# Altium footprint library QFN.PcbLib: 7 footprints
Each footprint in its own frame and in the unit in brackets; x right, y up, seen from the top. Pads: shape width x height; smd on the part's side, far side on the other; paste and mask are expansions set on the pad; w line width, h text height; cw(c..) or ccw(c..) is an arc to the next point about the centre after c.
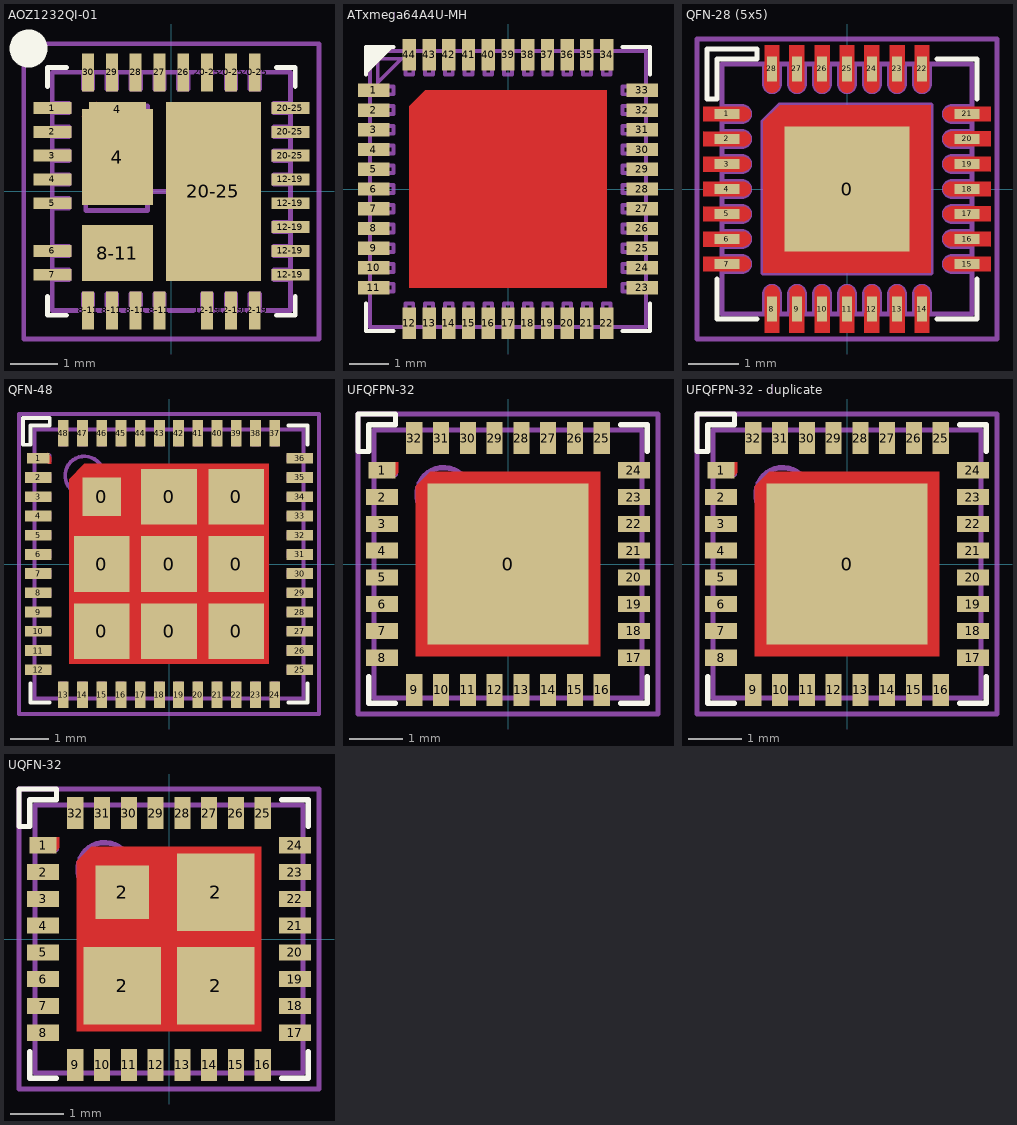
[diagram p0: the footprints below, top view; thin cyan lines are the x and y axes]

## AOZ1232QI-01 [mm] "QFN-30 5x5x0.9mm"
height 0.9
pads (34):
  rect 0.8x0.25 smd: 1(-2.5,1.75) 2(-2.5,1.25) 3(-2.5,0.75) 4(-2.5,0.25) 5(-2.5,-0.25) 6(-2.5,-1.25) 7(-2.5,-1.75) 12-19(2.5,-1.75) 12-19(2.5,-1.25) 12-19(2.5,-0.75) 12-19(2.5,-0.25) 12-19(2.5,0.25) 20-25(2.5,0.75) 20-25(2.5,1.25) 20-25(2.5,1.75)
  rect 1.494x2.02 smd: 4(-1.133,0.72)
  rect 1.194x0.3 smd: 4(-1.133,1.73)
  rect 0.25x0.8 smd: 8-11(-1.75,-2.5) 8-11(-1.25,-2.5) 8-11(-0.75,-2.5) 8-11(-0.25,-2.5) 12-19(0.75,-2.5) 12-19(1.25,-2.5) 12-19(1.75,-2.5) 20-25(0.75,2.5) 20-25(1.25,2.5) 20-25(1.75,2.5) 26(0.25,2.5) 27(-0.25,2.5) 28(-0.75,2.5) 29(-1.25,2.5) 30(-1.75,2.5)
  rect 1.494x1.17 smd: 8-11(-1.133,-1.295)
  rect 1.996x3.76 smd: 20-25(0.882,0)
Top Layer:
  region: -1.88,1.58 -1.58,1.88 -1.58,1.58
Top Overlay:
  circle w0.4: c-3,3 r0.2
  lines w0.1: -2.6,-2.2 -2.6,-2.6 -2.2,-2.6 ; -2.6,2.2 -2.6,2.6 -2.2,2.6 ; 2.2,-2.6 2.6,-2.6 2.6,-2.2 ; 2.2,2.6 2.6,2.6 2.6,2.2
Top Paste:
  pour cut-out: -0.12,-0.441 -0.12,-0.711 1.88,-0.711 1.88,-0.441
  pour cut-out: -0.12,0.849 -0.12,0.579 1.88,0.579 1.88,0.849
  pour cut-out: -1.88,0.84 -1.88,0.57 -0.385,0.57 -0.385,0.84
  pour cut-out: -1.06,-1.88 -1.21,-1.88 -1.21,-0.71 -1.06,-0.71
  pour cut-out: 1,1.88 0.85,1.88 0.85,-1.88 1,-1.88
  pour cut-out: -1.06,1.88 -1.21,1.88 -1.21,-0.437 -1.06,-0.437
Top Package:
  lines w0.1: -2.5,-1.85 -2.15,-1.85 -2.15,-1.65 -2.5,-1.65 ; -2.5,-1.35 -2.15,-1.35 -2.15,-1.15 -2.5,-1.15 ; -2.5,-0.35 -2.15,-0.35 -2.15,-0.15 -2.5,-0.15 ; -2.5,0.15 -2.15,0.15 -2.15,0.35 -2.5,0.35 ; -2.5,0.65 -2.15,0.65 -2.15,0.85 -2.5,0.85 ; -2.5,1.15 -2.15,1.15 -2.15,1.35 -2.5,1.35 ; -2.5,1.65 -2.15,1.65 -2.15,1.85 -2.5,1.85 ; -1.85,-2.5 -1.85,-2.15 -1.65,-2.15 -1.65,-2.5 ; -1.85,2.5 -1.85,2.15 -1.65,2.15 -1.65,2.5 ; -1.35,-2.5 -1.35,-2.15 -1.15,-2.15 -1.15,-2.5 ; -1.35,2.5 -1.35,2.15 -1.15,2.15 -1.15,2.5 ; -0.85,-2.5 -0.85,-2.15 -0.65,-2.15 -0.65,-2.5 ; -0.85,2.5 -0.85,2.15 -0.65,2.15 -0.65,2.5 ; -0.35,-2.5 -0.35,-2.15 -0.15,-2.15 -0.15,-2.5 ; -0.35,2.5 -0.35,2.15 -0.15,2.15 -0.15,2.5 ; 0.15,2.5 0.15,2.15 0.35,2.15 0.35,2.5 ; 0.65,-2.5 0.65,-2.15 0.85,-2.15 0.85,-2.5 ; 1.15,-2.5 1.15,-2.15 1.35,-2.15 1.35,-2.5 ; 1.15,2.5 1.15,2.15 1.35,2.15 1.35,2.5 ; 1.65,-2.5 1.65,-2.15 1.85,-2.15 1.85,-2.5 ; 1.65,2.5 1.65,2.15 1.85,2.15 1.85,2.5 ; 2.5,-1.85 2.15,-1.85 2.15,-1.65 2.5,-1.65 ; 2.5,-1.35 2.15,-1.35 2.15,-1.15 2.5,-1.15 ; 2.5,-0.85 2.15,-0.85 2.15,-0.65 2.5,-0.65 ; 2.5,0.15 2.15,0.15 2.15,0.35 2.5,0.35 ; 2.5,0.65 2.15,0.65 2.15,0.85 2.5,0.85 ; 2.5,1.15 2.15,1.15 2.15,1.35 2.5,1.35 ; 2.5,1.65 2.15,1.65 2.15,1.85 2.5,1.85 ; -2.5,-2.5 2.5,-2.5 2.5,2.5 -2.5,2.5 -2.5,-2.5 ; -1.8,-1.8 -1.8,-0.8 -0.5,-0.8 -0.5,-1.8 -1.8,-1.8 ; -1.8,-0.4 -1.8,1.5 -1.5,1.8 -0.5,1.8 -0.5,-0.4 -1.8,-0.4 ; 0,-1.8 0,1.8 1.8,1.8 1.8,-1.8 0,-1.8
Top Border:
  lines w0.1: -0.5,0 0,0 ; 0,-0.5 0,0 ; 0,0.5 0,0 ; 0.5,0 0,0 ; -3.1,-3.1 -3.1,3.1 3.1,3.1 3.1,-3.1 -3.1,-3.1
3D body "UFQFPN-32.step": height 0.55, standoff 0, extent -2.5,-2.5 2.5,2.5

## ATxmega64A4U-MH [mm] "PW"
height 1
pads (44):
  rect 0.8x0.34 smd: 1(-3.4,2.5) 2(-3.4,2) 3(-3.4,1.5) 4(-3.4,1) 5(-3.4,0.5) 6(-3.4,0) 7(-3.4,-0.5) 8(-3.4,-1) 9(-3.4,-1.5) 10(-3.4,-2) 11(-3.4,-2.5) 23(3.4,-2.5) 24(3.4,-2) 25(3.4,-1.5) 26(3.4,-1) 27(3.4,-0.5) 28(3.4,0) 29(3.4,0.5) 30(3.4,1) 31(3.4,1.5) 32(3.4,2) 33(3.4,2.5)
  rect 0.34x0.8 smd: 12(-2.5,-3.4) 13(-2,-3.4) 14(-1.5,-3.4) 15(-1,-3.4) 16(-0.5,-3.4) 17(0,-3.4) 18(0.5,-3.4) 19(1,-3.4) 20(1.5,-3.4) 21(2,-3.4) 22(2.5,-3.4) 34(2.5,3.4) 35(2,3.4) 36(1.5,3.4) 37(1,3.4) 38(0.5,3.4) 39(0,3.4) 40(-0.5,3.4) 41(-1,3.4) 42(-1.5,3.4) 43(-2,3.4) 44(-2.5,3.4)
Top Layer:
  region: -2.5,2.1 -2.1,2.5 2.5,2.5 2.5,-2.5 -2.5,-2.5
Top Overlay:
  region: -3.55,2.95 -3.55,3.55 -2.95,3.55
  lines w0.1: -3.6,-2.9 -3.6,-3.6 -2.9,-3.6 ; -3.6,2.9 -3.6,3.6 -2.9,3.6 ; 2.9,-3.6 3.6,-3.6 3.6,-2.9 ; 2.9,3.6 3.6,3.6 3.6,2.9
Top Package:
  lines w0.1: -3.5,-2.6 -2.9,-2.6 -2.9,-2.4 -3.5,-2.4 ; -3.5,-2.1 -2.9,-2.1 -2.9,-1.9 -3.5,-1.9 ; -3.5,-1.6 -2.9,-1.6 -2.9,-1.4 -3.5,-1.4 ; -3.5,-1.1 -2.9,-1.1 -2.9,-0.9 -3.5,-0.9 ; -3.5,-0.6 -2.9,-0.6 -2.9,-0.4 -3.5,-0.4 ; -3.5,-0.1 -2.9,-0.1 -2.9,0.1 -3.5,0.1 ; -3.5,0.4 -2.9,0.4 -2.9,0.6 -3.5,0.6 ; -3.5,0.9 -2.9,0.9 -2.9,1.1 -3.5,1.1 ; -3.5,1.4 -2.9,1.4 -2.9,1.6 -3.5,1.6 ; -3.5,1.9 -2.9,1.9 -2.9,2.1 -3.5,2.1 ; -3.5,2.4 -2.9,2.4 -2.9,2.6 -3.5,2.6 ; -2.6,-3.5 -2.6,-2.9 -2.4,-2.9 -2.4,-3.5 ; -2.6,3.5 -2.6,2.9 -2.4,2.9 -2.4,3.5 ; -2.1,-3.5 -2.1,-2.9 -1.9,-2.9 -1.9,-3.5 ; -2.1,3.5 -2.1,2.9 -1.9,2.9 -1.9,3.5 ; -1.6,-3.5 -1.6,-2.9 -1.4,-2.9 -1.4,-3.5 ; -1.6,3.5 -1.6,2.9 -1.4,2.9 -1.4,3.5 ; -1.1,-3.5 -1.1,-2.9 -0.9,-2.9 -0.9,-3.5 ; -1.1,3.5 -1.1,2.9 -0.9,2.9 -0.9,3.5 ; -0.6,-3.5 -0.6,-2.9 -0.4,-2.9 -0.4,-3.5 ; -0.6,3.5 -0.6,2.9 -0.4,2.9 -0.4,3.5 ; -0.1,-3.5 -0.1,-2.9 0.1,-2.9 0.1,-3.5 ; -0.1,3.5 -0.1,2.9 0.1,2.9 0.1,3.5 ; 0.4,-3.5 0.4,-2.9 0.6,-2.9 0.6,-3.5 ; 0.4,3.5 0.4,2.9 0.6,2.9 0.6,3.5 ; 0.9,-3.5 0.9,-2.9 1.1,-2.9 1.1,-3.5 ; 0.9,3.5 0.9,2.9 1.1,2.9 1.1,3.5 ; 1.4,-3.5 1.4,-2.9 1.6,-2.9 1.6,-3.5 ; 1.4,3.5 1.4,2.9 1.6,2.9 1.6,3.5 ; 1.9,-3.5 1.9,-2.9 2.1,-2.9 2.1,-3.5 ; 1.9,3.5 1.9,2.9 2.1,2.9 2.1,3.5 ; 2.4,-3.5 2.4,-2.9 2.6,-2.9 2.6,-3.5 ; 2.4,3.5 2.4,2.9 2.6,2.9 2.6,3.5 ; 3.5,-2.6 2.9,-2.6 2.9,-2.4 3.5,-2.4 ; 3.5,-2.1 2.9,-2.1 2.9,-1.9 3.5,-1.9 ; 3.5,-1.6 2.9,-1.6 2.9,-1.4 3.5,-1.4 ; 3.5,-1.1 2.9,-1.1 2.9,-0.9 3.5,-0.9 ; 3.5,-0.6 2.9,-0.6 2.9,-0.4 3.5,-0.4 ; 3.5,-0.1 2.9,-0.1 2.9,0.1 3.5,0.1 ; 3.5,0.4 2.9,0.4 2.9,0.6 3.5,0.6 ; 3.5,0.9 2.9,0.9 2.9,1.1 3.5,1.1 ; 3.5,1.4 2.9,1.4 2.9,1.6 3.5,1.6 ; 3.5,1.9 2.9,1.9 2.9,2.1 3.5,2.1 ; 3.5,2.4 2.9,2.4 2.9,2.6 3.5,2.6 ; -3.5,-3.5 3.5,-3.5 3.5,3.5 -3.5,3.5 -3.5,-3.5 ; -3.3,2.7 -2.7,3.3 -3.3,3.3 -3.3,2.7
Top Border:
  lines w0.1: -0.65,0 0,0 ; 0,-0.65 0,0 ; 0,0.8 0,0 ; 0.65,0 0,0 ; -3.5,-3.5 3.5,-3.5 3.5,3.5 -3.5,3.5 -3.5,-3.5
3D body "User Library-VQFN(44).step": height 1, standoff 0.05, extent -3.55,-3.55 3.55,3.55

## QFN-28 (5x5) [mm]
height 0.8
pads (29):
  rect 2.5x2.5 smd paste-2.5: 0(0,0)
  rect 0.5x0.2 smd paste-0.2: 1(-2.4,1.5) 2(-2.4,1) 3(-2.4,0.5) 4(-2.4,0) 5(-2.4,-0.5) 6(-2.4,-1) 7(-2.4,-1.5) 15(2.4,-1.5) 16(2.4,-1) 17(2.4,-0.5) 18(2.4,0) 19(2.4,0.5) 20(2.4,1) 21(2.4,1.5)
  rect 0.2x0.5 smd paste-0.2: 8(-1.5,-2.4) 9(-1,-2.4) 10(-0.5,-2.4) 11(0,-2.4) 12(0.5,-2.4) 13(1,-2.4) 14(1.5,-2.4) 22(1.5,2.4) 23(1,2.4) 24(0.5,2.4) 25(0,2.4) 26(-0.5,2.4) 27(-1,2.4) 28(-1.5,2.4)
Top Layer:
  region: -2.875,0.15 -2.075,0.15 -2.045,0.15 -1.99,0.127 -1.948,0.085 -1.925,0.03 -1.925,0 -1.925,-0.03 -1.948,-0.085 -1.99,-0.127 -2.045,-0.15 -2.075,-0.15 -2.875,-0.15
  region: -1.35,1.675 1.675,1.675 1.675,-1.675 -1.675,-1.675 -1.675,1.35
  region: -2.875,0.65 -2.075,0.65 -2.045,0.65 -1.99,0.627 -1.948,0.585 -1.925,0.53 -1.925,0.5 -1.925,0.47 -1.948,0.415 -1.99,0.373 -2.045,0.35 -2.075,0.35 -2.875,0.35
  region: -2.875,1.15 -2.075,1.15 -2.045,1.15 -1.99,1.127 -1.948,1.085 -1.925,1.03 -1.925,1 -1.925,0.97 -1.948,0.915 -1.99,0.873 -2.045,0.85 -2.075,0.85 -2.875,0.85
  region: -2.875,1.65 -2.075,1.65 -2.045,1.65 -1.99,1.627 -1.948,1.585 -1.925,1.53 -1.925,1.5 -1.925,1.47 -1.948,1.415 -1.99,1.373 -2.045,1.35 -2.075,1.35 -2.875,1.35
  region: -2.875,-0.35 -2.075,-0.35 -2.045,-0.35 -1.99,-0.373 -1.948,-0.415 -1.925,-0.47 -1.925,-0.5 -1.925,-0.53 -1.948,-0.585 -1.99,-0.627 -2.045,-0.65 -2.075,-0.65 -2.875,-0.65
  region: -2.875,-0.85 -2.075,-0.85 -2.045,-0.85 -1.99,-0.873 -1.948,-0.915 -1.925,-0.97 -1.925,-1 -1.925,-1.03 -1.948,-1.085 -1.99,-1.127 -2.045,-1.15 -2.075,-1.15 -2.875,-1.15
  region: -2.875,-1.35 -2.075,-1.35 -2.045,-1.35 -1.99,-1.373 -1.948,-1.415 -1.925,-1.47 -1.925,-1.5 -1.925,-1.53 -1.948,-1.585 -1.99,-1.627 -2.045,-1.65 -2.075,-1.65 -2.875,-1.65
  region: 1.35,-2.875 1.35,-2.075 1.35,-2.045 1.373,-1.99 1.415,-1.948 1.47,-1.925 1.5,-1.925 1.53,-1.925 1.585,-1.948 1.627,-1.99 1.65,-2.045 1.65,-2.075 1.65,-2.875
  region: 0.85,-2.875 0.85,-2.075 0.85,-2.045 0.873,-1.99 0.915,-1.948 0.97,-1.925 1,-1.925 1.03,-1.925 1.085,-1.948 1.127,-1.99 1.15,-2.045 1.15,-2.075 1.15,-2.875
  region: 0.35,-2.875 0.35,-2.075 0.35,-2.045 0.373,-1.99 0.415,-1.948 0.47,-1.925 0.5,-1.925 0.53,-1.925 0.585,-1.948 0.627,-1.99 0.65,-2.045 0.65,-2.075 0.65,-2.875
  region: -1.65,-2.875 -1.65,-2.075 -1.65,-2.045 -1.627,-1.99 -1.585,-1.948 -1.53,-1.925 -1.5,-1.925 -1.47,-1.925 -1.415,-1.948 -1.373,-1.99 -1.35,-2.045 -1.35,-2.075 -1.35,-2.875
  region: -1.15,-2.875 -1.15,-2.075 -1.15,-2.045 -1.127,-1.99 -1.085,-1.948 -1.03,-1.925 -1,-1.925 -0.97,-1.925 -0.915,-1.948 -0.873,-1.99 -0.85,-2.045 -0.85,-2.075 -0.85,-2.875
  region: -0.65,-2.875 -0.65,-2.075 -0.65,-2.045 -0.627,-1.99 -0.585,-1.948 -0.53,-1.925 -0.5,-1.925 -0.47,-1.925 -0.415,-1.948 -0.373,-1.99 -0.35,-2.045 -0.35,-2.075 -0.35,-2.875
  region: -0.15,-2.875 -0.15,-2.075 -0.15,-2.045 -0.127,-1.99 -0.085,-1.948 -0.03,-1.925 0,-1.925 0.03,-1.925 0.085,-1.948 0.127,-1.99 0.15,-2.045 0.15,-2.075 0.15,-2.875
  region: 2.875,1.35 2.075,1.35 2.045,1.35 1.99,1.373 1.948,1.415 1.925,1.47 1.925,1.5 1.925,1.53 1.948,1.585 1.99,1.627 2.045,1.65 2.075,1.65 2.875,1.65
  region: 2.875,0.85 2.075,0.85 2.045,0.85 1.99,0.873 1.948,0.915 1.925,0.97 1.925,1 1.925,1.03 1.948,1.085 1.99,1.127 2.045,1.15 2.075,1.15 2.875,1.15
  region: 2.875,0.35 2.075,0.35 2.045,0.35 1.99,0.373 1.948,0.415 1.925,0.47 1.925,0.5 1.925,0.53 1.948,0.585 1.99,0.627 2.045,0.65 2.075,0.65 2.875,0.65
  region: 2.875,-1.65 2.075,-1.65 2.045,-1.65 1.99,-1.627 1.948,-1.585 1.925,-1.53 1.925,-1.5 1.925,-1.47 1.948,-1.415 1.99,-1.373 2.045,-1.35 2.075,-1.35 2.875,-1.35
  region: 2.875,-1.15 2.075,-1.15 2.045,-1.15 1.99,-1.127 1.948,-1.085 1.925,-1.03 1.925,-1 1.925,-0.97 1.948,-0.915 1.99,-0.873 2.045,-0.85 2.075,-0.85 2.875,-0.85
  region: 2.875,-0.65 2.075,-0.65 2.045,-0.65 1.99,-0.627 1.948,-0.585 1.925,-0.53 1.925,-0.5 1.925,-0.47 1.948,-0.415 1.99,-0.373 2.045,-0.35 2.075,-0.35 2.875,-0.35
  region: 2.875,-0.15 2.075,-0.15 2.045,-0.15 1.99,-0.127 1.948,-0.085 1.925,-0.03 1.925,0 1.925,0.03 1.948,0.085 1.99,0.127 2.045,0.15 2.075,0.15 2.875,0.15
  region: -1.35,2.875 -1.35,2.075 -1.35,2.045 -1.373,1.99 -1.415,1.948 -1.47,1.925 -1.5,1.925 -1.53,1.925 -1.585,1.948 -1.627,1.99 -1.65,2.045 -1.65,2.075 -1.65,2.875
  region: -0.85,2.875 -0.85,2.075 -0.85,2.045 -0.873,1.99 -0.915,1.948 -0.97,1.925 -1,1.925 -1.03,1.925 -1.085,1.948 -1.127,1.99 -1.15,2.045 -1.15,2.075 -1.15,2.875
  region: -0.35,2.875 -0.35,2.075 -0.35,2.045 -0.373,1.99 -0.415,1.948 -0.47,1.925 -0.5,1.925 -0.53,1.925 -0.585,1.948 -0.627,1.99 -0.65,2.045 -0.65,2.075 -0.65,2.875
  region: 1.65,2.875 1.65,2.075 1.65,2.045 1.627,1.99 1.585,1.948 1.53,1.925 1.5,1.925 1.47,1.925 1.415,1.948 1.373,1.99 1.35,2.045 1.35,2.075 1.35,2.875
  region: 1.15,2.875 1.15,2.075 1.15,2.045 1.127,1.99 1.085,1.948 1.03,1.925 1,1.925 0.97,1.925 0.915,1.948 0.873,1.99 0.85,2.045 0.85,2.075 0.85,2.875
  region: 0.65,2.875 0.65,2.075 0.65,2.045 0.627,1.99 0.585,1.948 0.53,1.925 0.5,1.925 0.47,1.925 0.415,1.948 0.373,1.99 0.35,2.045 0.35,2.075 0.35,2.875
  region: 0.15,2.875 0.15,2.075 0.15,2.045 0.127,1.99 0.085,1.948 0.03,1.925 0,1.925 -0.03,1.925 -0.085,1.948 -0.127,1.99 -0.15,2.045 -0.15,2.075 -0.15,2.875
Top Overlay:
  lines w0.1: -2.6,-1.8 -2.6,-2.6 -1.8,-2.6 ; 1.8,-2.6 2.6,-2.6 2.6,-1.8 ; 1.8,2.6 2.6,2.6 2.6,1.8 ; -2.8,1.8 -2.8,2.8 -1.8,2.8 -1.8,2.6 -2.6,2.6 -2.6,1.8 -2.8,1.8
Top Package:
  lines w0.1: -2.5,-1.65 -2.1,-1.65 ccw(c-2.1,-1.5) -2.1,-1.35 -2.5,-1.35 ; -2.5,-1.15 -2.1,-1.15 ccw(c-2.1,-1) -2.1,-0.85 -2.5,-0.85 ; -2.5,-0.65 -2.1,-0.65 ccw(c-2.1,-0.5) -2.1,-0.35 -2.5,-0.35 ; -2.5,-0.15 -2.1,-0.15 ccw(c-2.1,0) -2.1,0.15 -2.5,0.15 ; -2.5,0.35 -2.1,0.35 ccw(c-2.1,0.5) -2.1,0.65 -2.5,0.65 ; -2.5,0.85 -2.1,0.85 ccw(c-2.1,1) -2.1,1.15 -2.5,1.15 ; -2.5,1.35 -2.1,1.35 ccw(c-2.1,1.5) -2.1,1.65 -2.5,1.65 ; -1.65,-2.5 -1.65,-2.1 cw(c-1.5,-2.1) -1.35,-2.1 -1.35,-2.5 ; -1.65,2.5 -1.65,2.1 ccw(c-1.5,2.1) -1.35,2.1 -1.35,2.5 ; -1.15,-2.5 -1.15,-2.1 cw(c-1,-2.1) -0.85,-2.1 -0.85,-2.5 ; -1.15,2.5 -1.15,2.1 ccw(c-1,2.1) -0.85,2.1 -0.85,2.5 ; -0.65,-2.5 -0.65,-2.1 cw(c-0.5,-2.1) -0.35,-2.1 -0.35,-2.5 ; -0.65,2.5 -0.65,2.1 ccw(c-0.5,2.1) -0.35,2.1 -0.35,2.5 ; -0.15,-2.5 -0.15,-2.1 cw(c0,-2.1) 0.15,-2.1 0.15,-2.5 ; -0.15,2.5 -0.15,2.1 ccw(c0,2.1) 0.15,2.1 0.15,2.5 ; 0.35,-2.5 0.35,-2.1 cw(c0.5,-2.1) 0.65,-2.1 0.65,-2.5 ; 0.35,2.5 0.35,2.1 ccw(c0.5,2.1) 0.65,2.1 0.65,2.5 ; 0.85,-2.5 0.85,-2.1 cw(c1,-2.1) 1.15,-2.1 1.15,-2.5 ; 0.85,2.5 0.85,2.1 ccw(c1,2.1) 1.15,2.1 1.15,2.5 ; 1.35,-2.5 1.35,-2.1 cw(c1.5,-2.1) 1.65,-2.1 1.65,-2.5 ; 1.35,2.5 1.35,2.1 ccw(c1.5,2.1) 1.65,2.1 1.65,2.5 ; 2.5,-1.65 2.1,-1.65 cw(c2.1,-1.5) 2.1,-1.35 2.5,-1.35 ; 2.5,-1.15 2.1,-1.15 cw(c2.1,-1) 2.1,-0.85 2.5,-0.85 ; 2.5,-0.65 2.1,-0.65 cw(c2.1,-0.5) 2.1,-0.35 2.5,-0.35 ; 2.5,-0.15 2.1,-0.15 cw(c2.1,0) 2.1,0.15 2.5,0.15 ; 2.5,0.35 2.1,0.35 cw(c2.1,0.5) 2.1,0.65 2.5,0.65 ; 2.5,0.85 2.1,0.85 cw(c2.1,1) 2.1,1.15 2.5,1.15 ; 2.5,1.35 2.1,1.35 cw(c2.1,1.5) 2.1,1.65 2.5,1.65 ; -2.5,-2.5 2.5,-2.5 2.5,2.5 -2.5,2.5 -2.5,-2.5 ; -1.675,-1.675 -1.675,1.35 -1.35,1.675 1.675,1.675 1.675,-1.675 -1.675,-1.675
Top Border:
  lines w0.1: -0.5,0 0,0 ; 0,-0.5 0,0 ; 0,0.5 0,0 ; 0.5,0 0,0 ; -3,-3 3,-3 3,3 -3,3 -3,-3
3D body "QFN-28 (5x5).STEP": height 1, standoff 0, extent -2.5,-2.5 2.5,2.5

## QFN-48 [mm] "QFN, 100-Leads, Body 7x7mm, Pitch 0.5mm, IPC Medium Density"
height 0.9
pads (57):
  rect 1.45x1.45 smd: 0(-1.75,-1.75) 0(-1.75,0) 0(0,-1.75) 0(0,0) 0(0,1.75) 0(1.75,-1.75) 0(1.75,0) 0(1.75,1.75)
  rect 1x1 smd: 0(-1.75,1.75)
  rect 0.59x0.28 smd: 1(-3.4,2.75)
  rect 0.69x0.28 smd: 2(-3.4,2.25) 3(-3.4,1.75) 4(-3.4,1.25) 5(-3.4,0.75) 6(-3.4,0.25) 7(-3.4,-0.25) 8(-3.4,-0.75) 9(-3.4,-1.25) 10(-3.4,-1.75) 11(-3.4,-2.25) 12(-3.4,-2.75) 25(3.4,-2.75) 26(3.4,-2.25) 27(3.4,-1.75) 28(3.4,-1.25) 29(3.4,-0.75) 30(3.4,-0.25) 31(3.4,0.25) 32(3.4,0.75) 33(3.4,1.25) 34(3.4,1.75) 35(3.4,2.25) 36(3.4,2.75)
  rect 0.28x0.69 smd: 13(-2.75,-3.4) 14(-2.25,-3.4) 15(-1.75,-3.4) 16(-1.25,-3.4) 17(-0.75,-3.4) 18(-0.25,-3.4) 19(0.25,-3.4) 20(0.75,-3.4) 21(1.25,-3.4) 22(1.75,-3.4) 23(2.25,-3.4) 24(2.75,-3.4) 37(2.75,3.4) 38(2.25,3.4) 39(1.75,3.4) 40(1.25,3.4) 41(0.75,3.4) 42(0.25,3.4) 43(-0.25,3.4) 44(-0.75,3.4) 45(-1.25,3.4) 46(-1.75,3.4) 47(-2.25,3.4) 48(-2.75,3.4)
Top Layer:
  region: 2.6,2.6 -2.2,2.6 -2.6,2.2 -2.6,-2.6 2.6,-2.6
  region: -1.025,1.025 -1.025,2.475 -2.1,2.475 -2.475,2.1 -2.475,1.025
  region: -3.155,2.61 -3.055,2.61 -3.055,2.79 -3.155,2.89
Top Overlay:
  lines w0.1: -3.6,-3.1 -3.6,-3.6 -3.1,-3.6 ; 3.1,-3.6 3.6,-3.6 3.6,-3.1 ; 3.1,3.6 3.6,3.6 3.6,3.1 ; -3.8,3.1 -3.6,3.1 -3.6,3.6 -3.1,3.6 -3.1,3.8 -3.8,3.8 -3.8,3.1
Top Package:
  circle w0.1: c-2.2,2.3 r0.5
  lines w0.1: -3.5,-2.825 -3.1,-2.825 -3.1,-2.675 -3.5,-2.675 ; -3.5,-2.325 -3.1,-2.325 -3.1,-2.175 -3.5,-2.175 ; -3.5,-1.825 -3.1,-1.825 -3.1,-1.675 -3.5,-1.675 ; -3.5,-1.325 -3.1,-1.325 -3.1,-1.175 -3.5,-1.175 ; -3.5,-0.825 -3.1,-0.825 -3.1,-0.675 -3.5,-0.675 ; -3.5,-0.325 -3.1,-0.325 -3.1,-0.175 -3.5,-0.175 ; -3.5,0.175 -3.1,0.175 -3.1,0.325 -3.5,0.325 ; -3.5,0.675 -3.1,0.675 -3.1,0.825 -3.5,0.825 ; -3.5,1.175 -3.1,1.175 -3.1,1.325 -3.5,1.325 ; -3.5,1.675 -3.1,1.675 -3.1,1.825 -3.5,1.825 ; -3.5,2.175 -3.1,2.175 -3.1,2.325 -3.5,2.325 ; -3.5,2.675 -3.1,2.675 -3.1,2.825 -3.5,2.825 ; -2.825,-3.5 -2.825,-3.1 -2.675,-3.1 -2.675,-3.5 ; -2.825,3.5 -2.825,3.1 -2.675,3.1 -2.675,3.5 ; -2.325,-3.5 -2.325,-3.1 -2.175,-3.1 -2.175,-3.5 ; -2.325,3.5 -2.325,3.1 -2.175,3.1 -2.175,3.5 ; -1.825,-3.5 -1.825,-3.1 -1.675,-3.1 -1.675,-3.5 ; -1.825,3.5 -1.825,3.1 -1.675,3.1 -1.675,3.5 ; -1.325,-3.5 -1.325,-3.1 -1.175,-3.1 -1.175,-3.5 ; -1.325,3.5 -1.325,3.1 -1.175,3.1 -1.175,3.5 ; -0.825,-3.5 -0.825,-3.1 -0.675,-3.1 -0.675,-3.5 ; -0.825,3.5 -0.825,3.1 -0.675,3.1 -0.675,3.5 ; -0.325,-3.5 -0.325,-3.1 -0.175,-3.1 -0.175,-3.5 ; -0.325,3.5 -0.325,3.1 -0.175,3.1 -0.175,3.5 ; 0.175,-3.5 0.175,-3.1 0.325,-3.1 0.325,-3.5 ; 0.175,3.5 0.175,3.1 0.325,3.1 0.325,3.5 ; 0.675,-3.5 0.675,-3.1 0.825,-3.1 0.825,-3.5 ; 0.675,3.5 0.675,3.1 0.825,3.1 0.825,3.5 ; 1.175,-3.5 1.175,-3.1 1.325,-3.1 1.325,-3.5 ; 1.175,3.5 1.175,3.1 1.325,3.1 1.325,3.5 ; 1.675,-3.5 1.675,-3.1 1.825,-3.1 1.825,-3.5 ; 1.675,3.5 1.675,3.1 1.825,3.1 1.825,3.5 ; 2.175,-3.5 2.175,-3.1 2.325,-3.1 2.325,-3.5 ; 2.175,3.5 2.175,3.1 2.325,3.1 2.325,3.5 ; 2.675,-3.5 2.675,-3.1 2.825,-3.1 2.825,-3.5 ; 2.675,3.5 2.675,3.1 2.825,3.1 2.825,3.5 ; 3.5,-2.825 3.1,-2.825 3.1,-2.675 3.5,-2.675 ; 3.5,-2.325 3.1,-2.325 3.1,-2.175 3.5,-2.175 ; 3.5,-1.825 3.1,-1.825 3.1,-1.675 3.5,-1.675 ; 3.5,-1.325 3.1,-1.325 3.1,-1.175 3.5,-1.175 ; 3.5,-0.825 3.1,-0.825 3.1,-0.675 3.5,-0.675 ; 3.5,-0.325 3.1,-0.325 3.1,-0.175 3.5,-0.175 ; 3.5,0.175 3.1,0.175 3.1,0.325 3.5,0.325 ; 3.5,0.675 3.1,0.675 3.1,0.825 3.5,0.825 ; 3.5,1.175 3.1,1.175 3.1,1.325 3.5,1.325 ; 3.5,1.675 3.1,1.675 3.1,1.825 3.5,1.825 ; 3.5,2.175 3.1,2.175 3.1,2.325 3.5,2.325 ; 3.5,2.675 3.1,2.675 3.1,2.825 3.5,2.825 ; -3.5,-3.5 -3.5,3.5 3.5,3.5 3.5,-3.5 -3.5,-3.5
Top Border:
  lines w0.1: -0.5,0 0.5,0 ; 0,-0.5 0,0.5 ; -3.9,-3.9 3.9,-3.9 3.9,3.9 -3.9,3.9 -3.9,-3.9
3D body "User Library-QFN48_7x7.step": height 0.78, standoff -0.02, extent -3.51,-3.51 3.51,3.51

## UFQFPN-32 [mm]
height 0.55
pads (33):
  rect 3x3 smd: 0(0,0)
  rect 0.5x0.3 smd: 1(-2.35,1.75)
  rect 0.6x0.3 smd: 2(-2.35,1.25) 3(-2.35,0.75) 4(-2.35,0.25) 5(-2.35,-0.25) 6(-2.35,-0.75) 7(-2.35,-1.25) 8(-2.35,-1.75) 17(2.35,-1.75) 18(2.35,-1.25) 19(2.35,-0.75) 20(2.35,-0.25) 21(2.35,0.25) 22(2.35,0.75) 23(2.35,1.25) 24(2.35,1.75)
  rect 0.3x0.6 smd: 9(-1.75,-2.35) 10(-1.25,-2.35) 11(-0.75,-2.35) 12(-0.25,-2.35) 13(0.25,-2.35) 14(0.75,-2.35) 15(1.25,-2.35) 16(1.75,-2.35) 25(1.75,2.35) 26(1.25,2.35) 27(0.75,2.35) 28(0.25,2.35) 29(-0.25,2.35) 30(-0.75,2.35) 31(-1.25,2.35) 32(-1.75,2.35)
Top Layer:
  region: 1.725,1.725 -1.45,1.725 -1.725,1.45 -1.725,-1.725 1.725,-1.725
  region: -2.15,1.6 -2.05,1.7 -2.05,1.9 -2.15,1.9
Top Overlay:
  lines w0.1: -2.6,-2.1 -2.6,-2.6 -2.1,-2.6 ; 2.1,-2.6 2.6,-2.6 2.6,-2.1 ; 2.1,2.6 2.6,2.6 2.6,2.1 ; -2.8,2.1 -2.6,2.1 -2.6,2.6 -2.1,2.6 -2.1,2.8 -2.8,2.8 -2.8,2.1
Top Package:
  circle w0.1: c-1.2,1.3 r0.5
  lines w0.1: -2.45,-1.825 -2.1,-1.825 -2.1,-1.675 -2.45,-1.675 ; -2.45,-1.325 -2.1,-1.325 -2.1,-1.175 -2.45,-1.175 ; -2.45,-0.825 -2.1,-0.825 -2.1,-0.675 -2.45,-0.675 ; -2.45,-0.325 -2.1,-0.325 -2.1,-0.175 -2.45,-0.175 ; -2.45,0.175 -2.1,0.175 -2.1,0.325 -2.45,0.325 ; -2.45,0.675 -2.1,0.675 -2.1,0.825 -2.45,0.825 ; -2.45,1.175 -2.1,1.175 -2.1,1.325 -2.45,1.325 ; -2.45,1.675 -2.1,1.675 -2.1,1.825 -2.45,1.825 ; -1.825,-2.45 -1.825,-2.1 -1.675,-2.1 -1.675,-2.45 ; -1.825,2.45 -1.825,2.1 -1.675,2.1 -1.675,2.45 ; -1.325,-2.45 -1.325,-2.1 -1.175,-2.1 -1.175,-2.45 ; -1.325,2.45 -1.325,2.1 -1.175,2.1 -1.175,2.45 ; -0.825,-2.45 -0.825,-2.1 -0.675,-2.1 -0.675,-2.45 ; -0.825,2.45 -0.825,2.1 -0.675,2.1 -0.675,2.45 ; -0.325,-2.45 -0.325,-2.1 -0.175,-2.1 -0.175,-2.45 ; -0.325,2.45 -0.325,2.1 -0.175,2.1 -0.175,2.45 ; 0.175,-2.45 0.175,-2.1 0.325,-2.1 0.325,-2.45 ; 0.175,2.45 0.175,2.1 0.325,2.1 0.325,2.45 ; 0.675,-2.45 0.675,-2.1 0.825,-2.1 0.825,-2.45 ; 0.675,2.45 0.675,2.1 0.825,2.1 0.825,2.45 ; 1.175,-2.45 1.175,-2.1 1.325,-2.1 1.325,-2.45 ; 1.175,2.45 1.175,2.1 1.325,2.1 1.325,2.45 ; 1.675,-2.45 1.675,-2.1 1.825,-2.1 1.825,-2.45 ; 1.675,2.45 1.675,2.1 1.825,2.1 1.825,2.45 ; 2.45,-1.825 2.1,-1.825 2.1,-1.675 2.45,-1.675 ; 2.45,-1.325 2.1,-1.325 2.1,-1.175 2.45,-1.175 ; 2.45,-0.825 2.1,-0.825 2.1,-0.675 2.45,-0.675 ; 2.45,-0.325 2.1,-0.325 2.1,-0.175 2.45,-0.175 ; 2.45,0.175 2.1,0.175 2.1,0.325 2.45,0.325 ; 2.45,0.675 2.1,0.675 2.1,0.825 2.45,0.825 ; 2.45,1.175 2.1,1.175 2.1,1.325 2.45,1.325 ; 2.45,1.675 2.1,1.675 2.1,1.825 2.45,1.825 ; -2.5,-2.5 2.5,-2.5 2.5,2.5 -2.5,2.5 -2.5,-2.5
Top Border:
  lines w0.1: -0.5,0 0.5,0 ; 0,-0.5 0,0.5 ; -2.8,-2.8 2.8,-2.8 2.8,2.8 -2.8,2.8 -2.8,-2.8
3D body "UFQFPN-32.step": height 0.55, standoff 0, extent -2.5,-2.5 2.5,2.5

## UFQFPN-32 - duplicate [mm]
height 0.55
pads (33):
  rect 3x3 smd: 0(0,0)
  rect 0.5x0.3 smd: 1(-2.35,1.75)
  rect 0.6x0.3 smd: 2(-2.35,1.25) 3(-2.35,0.75) 4(-2.35,0.25) 5(-2.35,-0.25) 6(-2.35,-0.75) 7(-2.35,-1.25) 8(-2.35,-1.75) 17(2.35,-1.75) 18(2.35,-1.25) 19(2.35,-0.75) 20(2.35,-0.25) 21(2.35,0.25) 22(2.35,0.75) 23(2.35,1.25) 24(2.35,1.75)
  rect 0.3x0.6 smd: 9(-1.75,-2.35) 10(-1.25,-2.35) 11(-0.75,-2.35) 12(-0.25,-2.35) 13(0.25,-2.35) 14(0.75,-2.35) 15(1.25,-2.35) 16(1.75,-2.35) 25(1.75,2.35) 26(1.25,2.35) 27(0.75,2.35) 28(0.25,2.35) 29(-0.25,2.35) 30(-0.75,2.35) 31(-1.25,2.35) 32(-1.75,2.35)
Top Layer:
  region: -2.15,1.6 -2.05,1.7 -2.05,1.9 -2.15,1.9
  region: 1.725,1.725 -1.45,1.725 -1.725,1.45 -1.725,-1.725 1.725,-1.725
Top Overlay:
  lines w0.1: -2.6,-2.1 -2.6,-2.6 -2.1,-2.6 ; 2.1,-2.6 2.6,-2.6 2.6,-2.1 ; 2.1,2.6 2.6,2.6 2.6,2.1 ; -2.8,2.1 -2.8,2.8 -2.1,2.8 -2.1,2.6 -2.6,2.6 -2.6,2.1 -2.8,2.1
Top Package:
  circle w0.1: c-1.2,1.3 r0.5
  lines w0.1: -2.45,-1.825 -2.1,-1.825 -2.1,-1.675 -2.45,-1.675 ; -2.45,-1.325 -2.1,-1.325 -2.1,-1.175 -2.45,-1.175 ; -2.45,-0.825 -2.1,-0.825 -2.1,-0.675 -2.45,-0.675 ; -2.45,-0.325 -2.1,-0.325 -2.1,-0.175 -2.45,-0.175 ; -2.45,0.175 -2.1,0.175 -2.1,0.325 -2.45,0.325 ; -2.45,0.675 -2.1,0.675 -2.1,0.825 -2.45,0.825 ; -2.45,1.175 -2.1,1.175 -2.1,1.325 -2.45,1.325 ; -2.45,1.675 -2.1,1.675 -2.1,1.825 -2.45,1.825 ; -1.825,-2.45 -1.825,-2.1 -1.675,-2.1 -1.675,-2.45 ; -1.825,2.45 -1.825,2.1 -1.675,2.1 -1.675,2.45 ; -1.325,-2.45 -1.325,-2.1 -1.175,-2.1 -1.175,-2.45 ; -1.325,2.45 -1.325,2.1 -1.175,2.1 -1.175,2.45 ; -0.825,-2.45 -0.825,-2.1 -0.675,-2.1 -0.675,-2.45 ; -0.825,2.45 -0.825,2.1 -0.675,2.1 -0.675,2.45 ; -0.325,-2.45 -0.325,-2.1 -0.175,-2.1 -0.175,-2.45 ; -0.325,2.45 -0.325,2.1 -0.175,2.1 -0.175,2.45 ; 0.175,-2.45 0.175,-2.1 0.325,-2.1 0.325,-2.45 ; 0.175,2.45 0.175,2.1 0.325,2.1 0.325,2.45 ; 0.675,-2.45 0.675,-2.1 0.825,-2.1 0.825,-2.45 ; 0.675,2.45 0.675,2.1 0.825,2.1 0.825,2.45 ; 1.175,-2.45 1.175,-2.1 1.325,-2.1 1.325,-2.45 ; 1.175,2.45 1.175,2.1 1.325,2.1 1.325,2.45 ; 1.675,-2.45 1.675,-2.1 1.825,-2.1 1.825,-2.45 ; 1.675,2.45 1.675,2.1 1.825,2.1 1.825,2.45 ; 2.45,-1.825 2.1,-1.825 2.1,-1.675 2.45,-1.675 ; 2.45,-1.325 2.1,-1.325 2.1,-1.175 2.45,-1.175 ; 2.45,-0.825 2.1,-0.825 2.1,-0.675 2.45,-0.675 ; 2.45,-0.325 2.1,-0.325 2.1,-0.175 2.45,-0.175 ; 2.45,0.175 2.1,0.175 2.1,0.325 2.45,0.325 ; 2.45,0.675 2.1,0.675 2.1,0.825 2.45,0.825 ; 2.45,1.175 2.1,1.175 2.1,1.325 2.45,1.325 ; 2.45,1.675 2.1,1.675 2.1,1.825 2.45,1.825 ; -2.5,-2.5 -2.5,2.5 2.5,2.5 2.5,-2.5 -2.5,-2.5
Top Border:
  lines w0.1: -0.5,0 0.5,0 ; 0,-0.5 0,0.5 ; -2.8,-2.8 -2.8,2.8 2.8,2.8 2.8,-2.8 -2.8,-2.8
3D body "UFQFPN-32.step": height 0.55, standoff 0, extent -2.5,-2.5 2.5,2.5

## UQFN-32 [mm] "UQFN, 32-Leads, Body 5x5mm, Pitch 0.5mm, IPC Medium Density"
height 0.55
pads (36):
  rect 0.5x0.3 smd: 1(-2.35,1.75)
  rect 0.6x0.3 smd: 2(-2.35,1.25) 3(-2.35,0.75) 4(-2.35,0.25) 5(-2.35,-0.25) 6(-2.35,-0.75) 7(-2.35,-1.25) 8(-2.35,-1.75) 17(2.35,-1.75) 18(2.35,-1.25) 19(2.35,-0.75) 20(2.35,-0.25) 21(2.35,0.25) 22(2.35,0.75) 23(2.35,1.25) 24(2.35,1.75)
  rect 1.45x1.45 smd: 2(-0.875,-0.875) 2(0.875,-0.875) 2(0.875,0.875)
  rect 1x1 smd: 2(-0.875,0.875)
  rect 0.3x0.6 smd: 9(-1.75,-2.35) 10(-1.25,-2.35) 11(-0.75,-2.35) 12(-0.25,-2.35) 13(0.25,-2.35) 14(0.75,-2.35) 15(1.25,-2.35) 16(1.75,-2.35) 25(1.75,2.35) 26(1.25,2.35) 27(0.75,2.35) 28(0.25,2.35) 29(-0.25,2.35) 30(-0.75,2.35) 31(-1.25,2.35) 32(-1.75,2.35)
Top Layer:
  region: -0.15,0.15 -0.15,1.6 -1.35,1.6 -1.6,1.35 -1.6,0.15
  region: -2.15,1.6 -2.05,1.7 -2.05,1.9 -2.15,1.9
  region: 1.725,1.725 -1.45,1.725 -1.725,1.45 -1.725,-1.725 1.725,-1.725
Top Overlay:
  lines w0.1: -2.6,-2.1 -2.6,-2.6 -2.1,-2.6 ; 2.1,-2.6 2.6,-2.6 2.6,-2.1 ; 2.1,2.6 2.6,2.6 2.6,2.1 ; -2.8,2.1 -2.8,2.8 -2.1,2.8 -2.1,2.6 -2.6,2.6 -2.6,2.1 -2.8,2.1
Top Package:
  circle w0.1: c-1.2,1.3 r0.5
  lines w0.1: -2.45,-1.825 -2.1,-1.825 -2.1,-1.675 -2.45,-1.675 ; -2.45,-1.325 -2.1,-1.325 -2.1,-1.175 -2.45,-1.175 ; -2.45,-0.825 -2.1,-0.825 -2.1,-0.675 -2.45,-0.675 ; -2.45,-0.325 -2.1,-0.325 -2.1,-0.175 -2.45,-0.175 ; -2.45,0.175 -2.1,0.175 -2.1,0.325 -2.45,0.325 ; -2.45,0.675 -2.1,0.675 -2.1,0.825 -2.45,0.825 ; -2.45,1.175 -2.1,1.175 -2.1,1.325 -2.45,1.325 ; -2.45,1.675 -2.1,1.675 -2.1,1.825 -2.45,1.825 ; -1.825,-2.45 -1.825,-2.1 -1.675,-2.1 -1.675,-2.45 ; -1.825,2.45 -1.825,2.1 -1.675,2.1 -1.675,2.45 ; -1.325,-2.45 -1.325,-2.1 -1.175,-2.1 -1.175,-2.45 ; -1.325,2.45 -1.325,2.1 -1.175,2.1 -1.175,2.45 ; -0.825,-2.45 -0.825,-2.1 -0.675,-2.1 -0.675,-2.45 ; -0.825,2.45 -0.825,2.1 -0.675,2.1 -0.675,2.45 ; -0.325,-2.45 -0.325,-2.1 -0.175,-2.1 -0.175,-2.45 ; -0.325,2.45 -0.325,2.1 -0.175,2.1 -0.175,2.45 ; 0.175,-2.45 0.175,-2.1 0.325,-2.1 0.325,-2.45 ; 0.175,2.45 0.175,2.1 0.325,2.1 0.325,2.45 ; 0.675,-2.45 0.675,-2.1 0.825,-2.1 0.825,-2.45 ; 0.675,2.45 0.675,2.1 0.825,2.1 0.825,2.45 ; 1.175,-2.45 1.175,-2.1 1.325,-2.1 1.325,-2.45 ; 1.175,2.45 1.175,2.1 1.325,2.1 1.325,2.45 ; 1.675,-2.45 1.675,-2.1 1.825,-2.1 1.825,-2.45 ; 1.675,2.45 1.675,2.1 1.825,2.1 1.825,2.45 ; 2.45,-1.825 2.1,-1.825 2.1,-1.675 2.45,-1.675 ; 2.45,-1.325 2.1,-1.325 2.1,-1.175 2.45,-1.175 ; 2.45,-0.825 2.1,-0.825 2.1,-0.675 2.45,-0.675 ; 2.45,-0.325 2.1,-0.325 2.1,-0.175 2.45,-0.175 ; 2.45,0.175 2.1,0.175 2.1,0.325 2.45,0.325 ; 2.45,0.675 2.1,0.675 2.1,0.825 2.45,0.825 ; 2.45,1.175 2.1,1.175 2.1,1.325 2.45,1.325 ; 2.45,1.675 2.1,1.675 2.1,1.825 2.45,1.825 ; -2.5,-2.5 -2.5,2.5 2.5,2.5 2.5,-2.5 -2.5,-2.5
Top Border:
  lines w0.1: -0.5,0 0.5,0 ; 0,-0.5 0,0.5 ; -2.8,-2.8 -2.8,2.8 2.8,2.8 2.8,-2.8 -2.8,-2.8
3D body "UFQFPN-32.step": height 0.55, standoff 0, extent -2.5,-2.5 2.5,2.5